# EAGLE library part HEADER_1X7 (library heck)
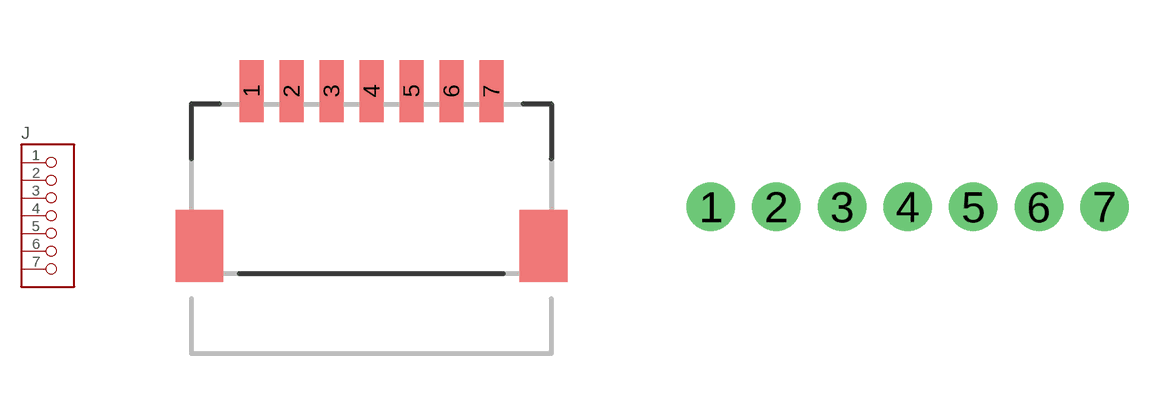
[diagram p20: symbol with the pads of JST-SH_HEADER_HORIZONTAL_7; footprints JST-SH_HEADER_HORIZONTAL_7, HEADER_100MIL_1X7]

Designator prefix J

## HEADER_1X7_JST-SH_HORIZONTAL  [JST-SH_HEADER_HORIZONTAL_7]
1  1  pas
2  2  pas
3  3  pas
4  4  pas
5  5  pas
6  6  pas
7  7  pas

## HEADER_1X7_100MIL_PTH  [HEADER_100MIL_1X7]
Pads as for JST-SH_HEADER_HORIZONTAL_7

## HEADER_1X7_JST_PH_PTH_HORIZONTAL  [JST-PH-7-PTH-RA]
Pads as for JST-SH_HEADER_HORIZONTAL_7

## HEADER_1X7_JST-SH_VERTICAL  [JST-SH_HEADER_VERTICAL_7]
Pads as for JST-SH_HEADER_HORIZONTAL_7

## HEADER_1X7_50MIL_PTH  [HEADER_50MIL_1X7_PTH]
Pads as for JST-SH_HEADER_HORIZONTAL_7

## Footprint JST-SH_HEADER_HORIZONTAL_7 (pad centres in mm)
smd 0.6 x 1.55: 1 -3,2; 2 -2,2; 3 -1,2; 4 0,2; 5 1,2; 6 2,2; 7 3,2

## Footprint HEADER_100MIL_1X7 (pad centres in mm)
drill 1.016 pad 1.88: 1 -7.62,0; 2 -5.08,0; 3 -2.54,0; 4 0,0; 5 2.54,0; 6 5.08,0; 7 7.62,0

## Footprint JST-PH-7-PTH-RA (pad centres in mm)
drill 0.8 pad 1.422: 1 -6,0; 2 -4,0; 3 -2,0; 4 0,0; 5 2,0; 6 4,0; 7 6,0

## Footprint JST-SH_HEADER_VERTICAL_7 (pad centres in mm)
smd 0.6 x 1.55: 1 -3,-1.325; 2 -2,-1.325; 3 -1,-1.325; 4 0,-1.325; 5 1,-1.325; 6 2,-1.325; 7 3,-1.325

## Footprint HEADER_50MIL_1X7_PTH (pad centres in mm)
drill 0.7 pad 1.016 square: 1 -3.81,0
drill 0.7 pad 1.016 octagon: 2 -2.54,0; 3 -1.27,0; 4 0,0; 5 1.27,0; 6 2.54,0; 7 3.81,0